# EAGLE library part LIS2DW12 (library LIS2DW12)
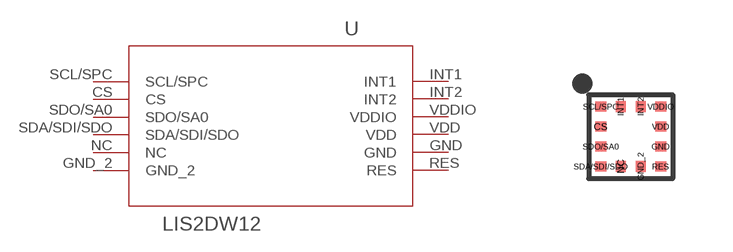
[diagram p0: symbol with the pads of LIS2DW12_LGA-12_2X2X0P7_STM; footprint LIS2DW12_LGA-12_2X2X0P7_STM]

Designator prefix U

## LIS2DW12  [LIS2DW12_LGA-12_2X2X0P7_STM]
CS  CS  in
GND  GND  pas
GND_2  GND_2  pas
INT1  INT1  out
INT2  INT2  out
NC  NC  nc
RES  RES  pas
SCL/SPC  SCL/SPC
SDA/SDI/SDO  SDA/SDI/SDO
SDO/SA0  SDO/SA0
VDD  VDD  pwr
VDDIO  VDDIO  pwr

## Footprint LIS2DW12_LGA-12_2X2X0P7_STM (pad centres in mm)
smd 0.275 x 0.25: CS -0.75,0.25; GND 0.75,-0.25; RES 0.75,-0.75; SCL/SPC -0.75,0.75; SDA/SDI/SDO -0.75,-0.75; SDO/SA0 -0.75,-0.25; VDD 0.75,0.25; VDDIO 0.75,0.75
smd 0.25 x 0.275: GND_2 0.25,-0.75; INT1 -0.25,0.75; INT2 0.25,0.75; NC -0.25,-0.75